# Altium integrated library Switch - DIP.IntLib: 3 symbols
Pins are listed as number, name and electrical type; pins without a type are passive.

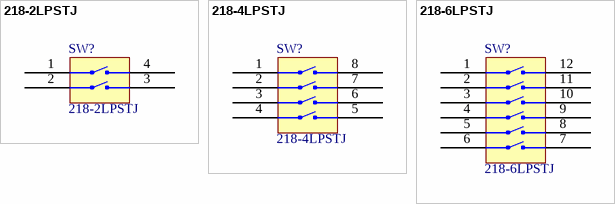
[diagram p0: symbols 218-2LPSTJ to 218-6LPSTJ]

## 218-2LPSTJ
designator SW?
SWITCH SLIDE DIP 2POS SPST 25MA 24V; Manufacturer: CTS Electrocomponents; Number Of Positions: 2; Voltage: 24VDC; Actuator Type: Slide (Standard); Actuator Level: Flush, Recessed; Electrical Life: 1,000 Cycles; Part Number: 218-2LPSTJ; PartId: 21130; Supplier 1: Digi-Key; Supplier Part Number 1: 218-2LPSTJ-ND; ComponentLink1Description: Datasheet; ComponentLink1URL: http://www.ctscorp.com/wp-content/uploads/2015/11/218.pdf; ComponentLink2Description: Digi-Key Listing; ComponentLink2URL: http://www.digikey.com/product-detail/en/cts-electrocomponents/218-2LPSTJ/218-2LPSTJ-ND/1083726; Price: 0.7624; TYPE: DIP Switches; Part Status: Active; Series: 218; Circuit: SPST; Current Rating: 25mA; Contact Finish: Gold; Height Above Board: 0.106" (2.70mm); Termination Style: J Lead; Length: 0.146" (3.71mm); Body Material: -; Mechanical Life: -; Operating Temperature: -55C ~ 85C
footprint CTS 218-2LPJ
pins: 1 GND, 2 GND, 3 GND, 4 GND

## 218-4LPSTJ
designator SW?
SWITCH SLIDE DIP 4POS SPST 25MA 24V; Manufacturer: CTS Electrocomponents; Number Of Positions: 4; Voltage: 24VDC; Actuator Type: Slide (Standard); Actuator Level: Flush, Recessed; Electrical Life: 1,000 Cycles; Part Number: 218-4LPSTJ; PartId: 21129; Supplier 1: Digi-Key; Supplier Part Number 1: CT3109-ND; ComponentLink1Description: Datasheet; ComponentLink1URL: http://www.ctscorp.com/wp-content/uploads/2015/11/218.pdf; ComponentLink2Description: Digi-Key Listing; ComponentLink2URL: http://www.digikey.com/product-detail/en/cts-electrocomponents/218-4LPSTJ/CT3109-ND/5223842; Price: 1.3; TYPE: DIP Switches; Part Status: Active; Series: 218; Circuit: SPST; Current Rating: 25mA; Contact Finish: Gold; Height Above Board: 0.106" (2.70mm); Termination Style: J Lead; Body Material: -; Mechanical Life: -; Operating Temperature: -55C ~ 85C
footprint CTS 218-4LPJ
pins: 1 GND, 2 GND, 3 GND, 4 GND, 5, 6, 7, 8

## 218-6LPSTJ
designator SW?
SWITCH SLIDE DIP 6POS SPST 25MA 24V; Manufacturer: CTS Electrocomponents; Number Of Positions: 6; Voltage: 24VDC; Actuator Type: Slide (Standard); Actuator Level: Flush, Recessed; Electrical Life: 1,000 Cycles; Part Number: 218-6LPSTJ; PartId: 21131; Supplier 1: Digi-Key; Supplier Part Number 1: 218-6LPSTJ-ND; ComponentLink1Description: Datasheet; ComponentLink1URL: http://www.ctscorp.com/wp-content/uploads/2015/11/218.pdf; ComponentLink2Description: Digi-Key Listing; ComponentLink2URL: http://www.digikey.com/product-detail/en/cts-electrocomponents/218-6LPSTJ/218-6LPSTJ-ND/5223857; Price: 0.8904; TYPE: DIP Switches; Part Status: Active; Series: 218; Circuit: SPST; Current Rating: 25mA; Contact Finish: Gold; Height Above Board: 0.106" (2.70mm); Termination Style: J Lead; Length: 0.346" (8.79mm); Body Material: -; Mechanical Life: -; Operating Temperature: -55C ~ 85C
footprint CTS 218-6LPJ
pins: 1 GND, 2 GND, 3 GND, 4 GND, 5, 6, 7, 8, 9, 10, 11, 12